# Altium schematic symbol library SJ-43514-SMT-TR.SchLib: 1 symbol
Pins are listed as number, name and electrical type; pins without a type are passive.

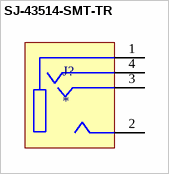
[diagram p0: symbol SJ-43514-SMT-TR]

## SJ-43514-SMT-TR
designator J?
MF: {'manufacturer': u'CUI Devices'}; MP: SJ-43514-SMT-TR; Package: None; Price: None; Value: *; Availability: Unavailable
footprint SJ-43514-SMT-TR
pins: 1, 2, 3, 4